# Altium schematic symbol library RF-BM-2652P2.SchLib: 1 symbol
Pins are listed as number, name and electrical type; pins without a type are passive.

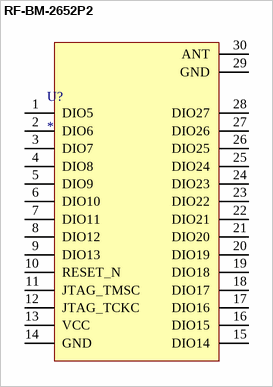
[diagram p0: symbol RF-BM-2652P2]

## RF-BM-2652P2
designator U?
footprint RF-BM-2652P2
pins: 1 DIO5, 2 DIO6, 3 DIO7, 4 DIO8, 5 DIO9, 6 DIO10, 7 DIO11, 8 DIO12, 9 DIO13, 10 RESET_N, 11 JTAG_TMSC, 12 JTAG_TCKC, 13 VCC, 14 GND, 15 DIO14, 16 DIO15, 17 DIO16, 18 DIO17, 19 DIO18, 20 DIO19, 21 DIO20, 22 DIO21, 23 DIO22, 24 DIO23, 25 DIO24, 26 DIO25, 27 DIO26, 28 DIO27, 29 GND, 30 ANT